# Altium footprint library Kondensator_DIP.PcbLib: 222 footprints (part 14 of 14)
Each footprint in its own frame and in the unit in brackets; x right, y up, seen from the top. Pads: shape width x height; smd on the part's side, far side on the other; paste and mask are expansions set on the pad; w line width, h text height; cw(c..) or ccw(c..) is an arc to the next point about the centre after c.
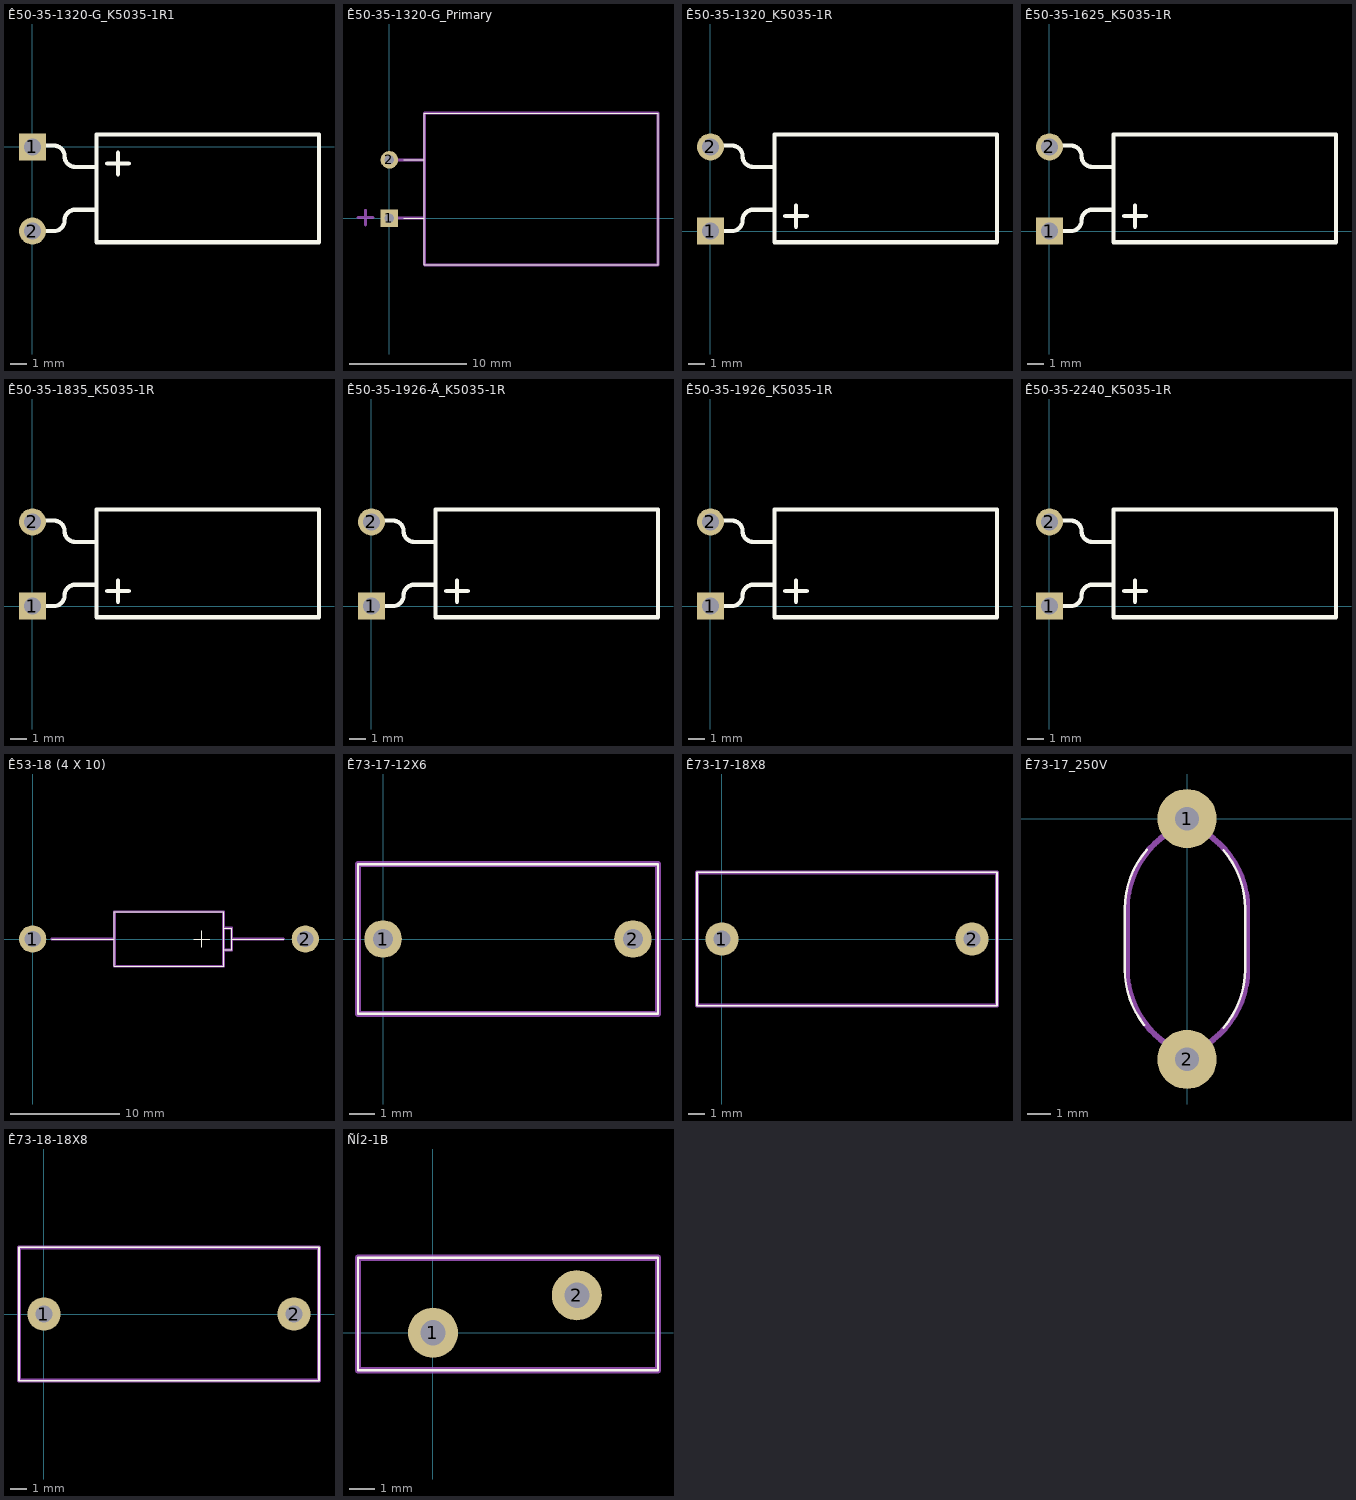
[diagram p13: the footprints below, top view; thin cyan lines are the x and y axes]

## Ê50-35-1320-G_K5035-1R1 [mm]
pads (2):
  rect 1.6x1.6 hole 1: 1(0,0)
  round 1.6 hole 1: 2(0,-5)
Top Overlay:
  lines w0.25: 0,-5 1.27,-5 ; 0,0.08 1.27,0.08 ; 1.271,-5 ccw(c1.27,-4.365) 1.905,-4.365 ; 1.271,0.08 cw(c1.27,-0.555) 1.905,-0.555 ; 1.905,-4.364 cw(c2.54,-4.365) 2.541,-3.73 ; 1.905,-0.554 ccw(c2.54,-0.555) 2.541,-1.19 ; 2.54,-3.73 3.81,-3.73 ; 2.54,-1.19 3.81,-1.19 ; 4.445,-0.986 5.715,-0.986 ; 5.08,-1.621 5.08,-0.351 ; 3.81,-5.66 17.018,-5.66 17.018,0.74 3.81,0.74 3.81,-5.66

## Ê50-35-1320-G_Primary [mm]
pads (2):
  rect 1.5x1.5 hole 0.8: 1(0,0)
  round 1.5 hole 0.8: 2(0,5)
Top Overlay:
  lines w0.1: 1.25,0 3,0 ; 1.25,5 3,5 ; 3,-4 23,-4 23,9 3,9 3,-4
Mechanical 1:
  lines w0.25: -2.685,0.049 -1.415,0.049 ; -2.05,-0.586 -2.05,0.684 ; 0,0 3,0 ; 0,5 3,5 ; 3,-4 23,-4 23,9 3,9 3,-4

## Ê50-35-1320_K5035-1R [mm]
pads (2):
  rect 1.6x1.6 hole 1: 1(0,0)
  round 1.6 hole 1: 2(0,5)
Top Overlay:
  lines w0.25: 0,0 1.27,0 ; 0,5.08 1.27,5.08 ; 1.271,0 ccw(c1.27,0.635) 1.905,0.635 ; 1.271,5.08 cw(c1.27,4.445) 1.905,4.445 ; 1.905,0.636 cw(c2.54,0.635) 2.541,1.27 ; 1.905,4.446 ccw(c2.54,4.445) 2.541,3.81 ; 2.54,1.27 3.81,1.27 ; 2.54,3.81 3.81,3.81 ; 4.445,0.889 5.715,0.889 ; 5.08,0.254 5.08,1.524 ; 3.81,-0.66 17.018,-0.66 17.018,5.74 3.81,5.74 3.81,-0.66

## Ê50-35-1625_K5035-1R [mm]
pads (2):
  rect 1.6x1.6 hole 1: 1(0,0)
  round 1.6 hole 1: 2(0,5)
Top Overlay:
  lines w0.25: 0,0 1.27,0 ; 0,5.08 1.27,5.08 ; 1.271,0 ccw(c1.27,0.635) 1.905,0.635 ; 1.271,5.08 cw(c1.27,4.445) 1.905,4.445 ; 1.905,0.636 cw(c2.54,0.635) 2.541,1.27 ; 1.905,4.446 ccw(c2.54,4.445) 2.541,3.81 ; 2.54,1.27 3.81,1.27 ; 2.54,3.81 3.81,3.81 ; 4.445,0.889 5.715,0.889 ; 5.08,0.254 5.08,1.524 ; 3.81,-0.66 17.018,-0.66 17.018,5.74 3.81,5.74 3.81,-0.66

## Ê50-35-1835_K5035-1R [mm]
pads (2):
  rect 1.6x1.6 hole 1: 1(0,0)
  round 1.6 hole 1: 2(0,5)
Top Overlay:
  lines w0.25: 0,0 1.27,0 ; 0,5.08 1.27,5.08 ; 1.271,0 ccw(c1.27,0.635) 1.905,0.635 ; 1.271,5.08 cw(c1.27,4.445) 1.905,4.445 ; 1.905,0.636 cw(c2.54,0.635) 2.541,1.27 ; 1.905,4.446 ccw(c2.54,4.445) 2.541,3.81 ; 2.54,1.27 3.81,1.27 ; 2.54,3.81 3.81,3.81 ; 4.445,0.889 5.715,0.889 ; 5.08,0.254 5.08,1.524 ; 3.81,-0.66 17.018,-0.66 17.018,5.74 3.81,5.74 3.81,-0.66

## Ê50-35-1926-Ã_K5035-1R [mm]
pads (2):
  rect 1.6x1.6 hole 1: 1(0,0)
  round 1.6 hole 1: 2(0,5)
Top Overlay:
  lines w0.25: 0,0 1.27,0 ; 0,5.08 1.27,5.08 ; 1.271,0 ccw(c1.27,0.635) 1.905,0.635 ; 1.271,5.08 cw(c1.27,4.445) 1.905,4.445 ; 1.905,0.636 cw(c2.54,0.635) 2.541,1.27 ; 1.905,4.446 ccw(c2.54,4.445) 2.541,3.81 ; 2.54,1.27 3.81,1.27 ; 2.54,3.81 3.81,3.81 ; 4.445,0.889 5.715,0.889 ; 5.08,0.254 5.08,1.524 ; 3.81,-0.66 17.018,-0.66 17.018,5.74 3.81,5.74 3.81,-0.66

## Ê50-35-1926_K5035-1R [mm]
pads (2):
  rect 1.6x1.6 hole 1: 1(0,0)
  round 1.6 hole 1: 2(0,5)
Top Overlay:
  lines w0.25: 0,0 1.27,0 ; 0,5.08 1.27,5.08 ; 1.271,0 ccw(c1.27,0.635) 1.905,0.635 ; 1.271,5.08 cw(c1.27,4.445) 1.905,4.445 ; 1.905,0.636 cw(c2.54,0.635) 2.541,1.27 ; 1.905,4.446 ccw(c2.54,4.445) 2.541,3.81 ; 2.54,1.27 3.81,1.27 ; 2.54,3.81 3.81,3.81 ; 4.445,0.889 5.715,0.889 ; 5.08,0.254 5.08,1.524 ; 3.81,-0.66 17.018,-0.66 17.018,5.74 3.81,5.74 3.81,-0.66

## Ê50-35-2240_K5035-1R [mm]
pads (2):
  rect 1.6x1.6 hole 1: 1(0,0)
  round 1.6 hole 1: 2(0,5)
Top Overlay:
  lines w0.25: 0,0 1.27,0 ; 0,5.08 1.27,5.08 ; 1.271,0 ccw(c1.27,0.635) 1.905,0.635 ; 1.271,5.08 cw(c1.27,4.445) 1.905,4.445 ; 1.905,0.636 cw(c2.54,0.635) 2.541,1.27 ; 1.905,4.446 ccw(c2.54,4.445) 2.541,3.81 ; 2.54,1.27 3.81,1.27 ; 2.54,3.81 3.81,3.81 ; 4.445,0.889 5.715,0.889 ; 5.08,0.254 5.08,1.524 ; 3.81,-0.66 17.018,-0.66 17.018,5.74 3.81,5.74 3.81,-0.66

## Ê53-18 (4 X 10) [mm]
pads (2):
  round 2.5 hole 1.5: 1(0,0) 2(25,0)
Top Overlay:
  lines w0.1: 1.75,0 7.5,0 ; 14.75,0 16.25,0 ; 15.5,-0.75 15.5,0.75 ; 17.5,-1 18.25,-1 18.25,1 17.5,1 ; 18.25,0 23,0 ; 7.5,-2.5 17.5,-2.5 17.5,2.5 7.5,2.5 7.5,-2.5
Mechanical 1:
  lines w0.25: 1.75,0 7.5,0 ; 17.5,-1 18.25,-1 18.25,1 17.5,1 ; 18.25,0 23,0
  lines w0.254: 7.5,-2.5 17.5,-2.5 17.5,2.5 7.5,2.5 7.5,-2.5

## Ê73-17-12X6 [mm]
pads (2):
  round 1.5 hole 0.8: 1(0,0) 2(10,0)
Top Overlay:
  lines w0.1: -1,-3 11,-3 11,3 -1,3 -1,-3
Mechanical 1:
  lines w0.25: -1,-3 11,-3 11,3 -1,3 -1,-3

## Ê73-17-18X8 [mm]
pads (2):
  round 2 hole 1: 1(0,0) 2(15,0)
Top Overlay:
  lines w0.1: -1.5,-4 16.5,-4 16.5,4 -1.5,4 -1.5,-4
Mechanical 1:
  lines w0.25: -1.5,-4 16.5,-4 16.5,4 -1.5,4 -1.5,-4

## Ê73-17_250V [mm]
pads (2):
  round 2.5 hole 1: 1(0,0) 2(0,-10.16)
Top Overlay:
  lines w0.1: -1.81,-8.711 cw(c1.18,-6.35) -2.63,-6.35 -2.63,-3.81 cw(c1.18,-3.81) -1.695,-1.31 ; 1.537,-8.824 ccw(c-1.36,-6.35) 2.45,-6.35 2.45,-3.81 ccw(c-1.36,-3.81) 1.537,-1.336
Mechanical 1:
  lines w0.25: -0.067,-9.965 ccw(c-1.27,-6.35) 2.54,-6.35 2.54,-3.81 ccw(c-1.27,-3.81) -0.067,-0.195 ; 0.067,-9.965 cw(c1.27,-6.35) -2.54,-6.35 -2.54,-3.81 cw(c1.27,-3.81) 0.067,-0.195

## Ê73-18-18X8 [mm]
pads (2):
  round 2 hole 1: 1(0,0) 2(15,0)
Top Overlay:
  lines w0.1: -1.5,-4 16.5,-4 16.5,4 -1.5,4 -1.5,-4
Mechanical 1:
  lines w0.25: -1.5,-4 16.5,-4 16.5,4 -1.5,4 -1.5,-4

## ÑÍ2-1B [mm]
pads (2):
  round 2 hole 1: 1(0,0) 2(5.75,1.5)
Top Overlay:
  lines w0.1: -3,-1.5 9,-1.5 9,3 -3,3 -3,-1.5
Mechanical 1:
  lines w0.25: -3,-1.5 9,-1.5 9,3 -3,3 -3,-1.5